# EAGLE library part PTSA0.5/8-2.5-Z (library con-phoenix-ptsa)
PCB terminal block Nominal current: 2 A Nom. voltage: 250 V Pitch: 2.5 mm Number of positions: 8 Connection method: Push-in spring connection Mounting: Wave soldering Conductor/PCB connection direction: 45 ° Color: green Offset soldering legs, two-rowed
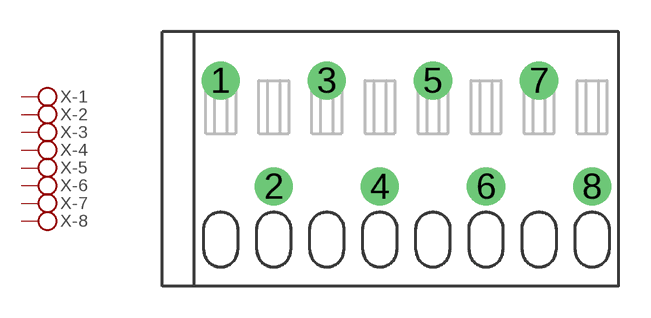
[diagram p0: symbol with the pads of 8PIN; footprint 8PIN]

Designator prefix X; gates -1=PIN -2=PIN -3=PIN -4=PIN -5=PIN -6=PIN -7=PIN -8=PIN

## PTSA0.5/8-2.5-Z  [8PIN]
1  -1:P$1
2  -2:P$1
3  -3:P$1
4  -4:P$1
5  -5:P$1
6  -6:P$1
7  -7:P$1
8  -8:P$1

## Footprint 8PIN (pad centres in mm)
drill 1 pad 1.8: 1 -2.5,5; 2 0,0; 3 2.5,5; 4 5,0; 5 7.5,5; 6 10,0; 7 12.5,5; 8 15,0